# EAGLE library part CPCI-3U (library BaseApp)
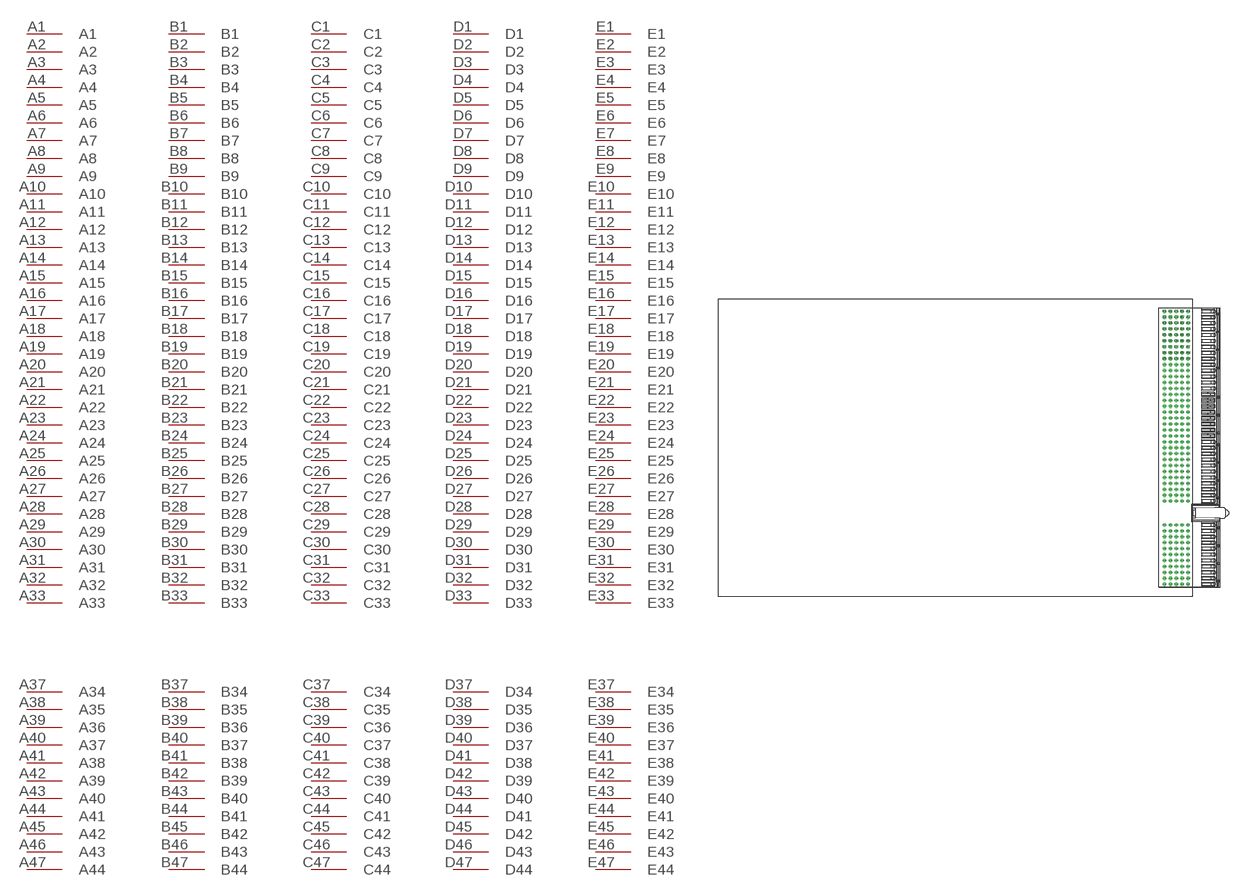
[diagram p22: symbol with the pads of CPCI-3U; footprint CPCI-3U]

Designator prefix X

## CPCI-3U  [CPCI-3U]
A1  A1
A2  A2
A3  A3
A4  A4
A5  A5
A6  A6
A7  A7
A8  A8
A9  A9
A10  A10
A11  A11
A12  A12
A13  A13
A14  A14
A15  A15
A16  A16
A17  A17
A18  A18
A19  A19
A20  A20
A21  A21
A22  A22
A23  A23
A24  A24
A25  A25
A26  A26
A27  A27
A28  A28
A29  A29
A30  A30
A31  A31
A32  A32
A33  A33
A37  A34
A38  A35
A39  A36
A40  A37
A41  A38
A42  A39
A43  A40
A44  A41
A45  A42
A46  A43
A47  A44
B1  B1
B2  B2
B3  B3
B4  B4
B5  B5
B6  B6
B7  B7
B8  B8
B9  B9
B10  B10
B11  B11
B12  B12
B13  B13
B14  B14
B15  B15
B16  B16
B17  B17
B18  B18
B19  B19
B20  B20
B21  B21
B22  B22
B23  B23
B24  B24
B25  B25
B26  B26
B27  B27
B28  B28
B29  B29
B30  B30
B31  B31
B32  B32
B33  B33
B37  B34
B38  B35
B39  B36
B40  B37
B41  B38
B42  B39
B43  B40
B44  B41
B45  B42
B46  B43
B47  B44
C1  C1
C2  C2
C3  C3
C4  C4
C5  C5
C6  C6
C7  C7
C8  C8
C9  C9
C10  C10
C11  C11
C12  C12
C13  C13
C14  C14
C15  C15
C16  C16
C17  C17
C18  C18
C19  C19
C20  C20
C21  C21
C22  C22
C23  C23
C24  C24
C25  C25
C26  C26
C27  C27
C28  C28
C29  C29
C30  C30
C31  C31
C32  C32
C33  C33
C37  C34
C38  C35
C39  C36
C40  C37
C41  C38
C42  C39
C43  C40
C44  C41
C45  C42
C46  C43
C47  C44
D1  D1
D2  D2
D3  D3
D4  D4
D5  D5
D6  D6
D7  D7
D8  D8
D9  D9
D10  D10
D11  D11
D12  D12
D13  D13
D14  D14
D15  D15
D16  D16
D17  D17
D18  D18
D19  D19
D20  D20
D21  D21
D22  D22
D23  D23
D24  D24
D25  D25
D26  D26
D27  D27
D28  D28
D29  D29
D30  D30
D31  D31
D32  D32
D33  D33
D37  D34
D38  D35
D39  D36
D40  D37
D41  D38
D42  D39
D43  D40
D44  D41
D45  D42
D46  D43
D47  D44
E1  E1
E2  E2
E3  E3
E4  E4
E5  E5
E6  E6
E7  E7
E8  E8
E9  E9
E10  E10
E11  E11
E12  E12
E13  E13
E14  E14
E15  E15
E16  E16
E17  E17
E18  E18
E19  E19
E20  E20
E21  E21
E22  E22
E23  E23
E24  E24
E25  E25
E26  E26
E27  E27
E28  E28
E29  E29
E30  E30
E31  E31
E32  E32
E33  E33
E37  E34
E38  E35
E39  E36
E40  E37
E41  E38
E42  E39
E43  E40
E44  E41
E45  E42
E46  E43
E47  E44

## Footprint CPCI-3U (pad centres in mm)
drill 0.7 pad 1.016 octagon: A1 158.5,96; A2 158.5,94; A3 158.5,92; A4 158.5,90; A5 158.5,88; A6 158.5,86; A7 158.5,84; A8 158.5,82; A9 158.5,80; A10 158.5,78; A11 158.5,76; A12 158.5,74; A13 158.5,72; A14 158.5,70; A15 158.5,68; A16 158.5,66; A17 158.5,64; A18 158.5,62; A19 158.5,60; A20 158.5,58; A21 158.5,56; A22 158.5,54; A23 158.5,52; A24 158.5,50; A25 158.5,48; A26 158.5,46; A27 158.5,44; A28 158.5,42; A29 158.5,40; A30 158.5,38; A31 158.5,36; A32 158.5,34; A33 158.5,32; A37 158.5,24; A38 158.5,22; A39 158.5,20; A40 158.5,18; A41 158.5,16; A42 158.5,14; A43 158.5,12; A44 158.5,10; A45 158.5,8; A46 158.5,6; A47 158.5,4; B1 156.5,96; B2 156.5,94; B3 156.5,92; B4 156.5,90; B5 156.5,88; B6 156.5,86; B7 156.5,84; B8 156.5,82; B9 156.5,80; B10 156.5,78; B11 156.5,76; B12 156.5,74; B13 156.5,72; B14 156.5,70; B15 156.5,68; B16 156.5,66; B17 156.5,64; B18 156.5,62; B19 156.5,60; B20 156.5,58; B21 156.5,56; B22 156.5,54; B23 156.5,52; B24 156.5,50; B25 156.5,48; B26 156.5,46; B27 156.5,44; B28 156.5,42; B29 156.5,40; B30 156.5,38; B31 156.5,36; B32 156.5,34; B33 156.5,32; B37 156.5,24; B38 156.5,22; B39 156.5,20; B40 156.5,18; B41 156.5,16; B42 156.5,14; B43 156.5,12; B44 156.5,10; B45 156.5,8; B46 156.5,6; B47 156.5,4; C1 154.5,96; C2 154.5,94; C3 154.5,92; C4 154.5,90; C5 154.5,88; C6 154.5,86; C7 154.5,84; C8 154.5,82; C9 154.5,80; C10 154.5,78; C11 154.5,76; C12 154.5,74; C13 154.5,72; C14 154.5,70; C15 154.5,68; C16 154.5,66; C17 154.5,64; C18 154.5,62; C19 154.5,60; C20 154.5,58; C21 154.5,56; C22 154.5,54; C23 154.5,52; C24 154.5,50; C25 154.5,48; C26 154.5,46; C27 154.5,44; C28 154.5,42; C29 154.5,40; C30 154.5,38; C31 154.5,36; C32 154.5,34; C33 154.5,32; C37 154.5,24; C38 154.5,22; C39 154.5,20; C40 154.5,18; C41 154.5,16; C42 154.5,14; C43 154.5,12; C44 154.5,10; C45 154.5,8; C46 154.5,6; C47 154.5,4; D1 152.5,96; D2 152.5,94; D3 152.5,92; D4 152.5,90; D5 152.5,88; D6 152.5,86; D7 152.5,84; D8 152.5,82; D9 152.5,80; D10 152.5,78; D11 152.5,76; D12 152.5,74; D13 152.5,72; D14 152.5,70; D15 152.5,68; D16 152.5,66; D17 152.5,64; D18 152.5,62; D19 152.5,60; D20 152.5,58; D21 152.5,56; D22 152.5,54; D23 152.5,52; D24 152.5,50; D25 152.5,48; D26 152.5,46; D27 152.5,44; D28 152.5,42; D29 152.5,40; D30 152.5,38; D31 152.5,36; D32 152.5,34; D33 152.5,32; D37 152.5,24; D38 152.5,22; D39 152.5,20; D40 152.5,18; D41 152.5,16; D42 152.5,14; D43 152.5,12; D44 152.5,10; D45 152.5,8; D46 152.5,6; D47 152.5,4; E1 150.5,96; E2 150.5,94; E3 150.5,92; E4 150.5,90; E5 150.5,88; E6 150.5,86; E7 150.5,84; E8 150.5,82; E9 150.5,80; E10 150.5,78; E11 150.5,76; E12 150.5,74; E13 150.5,72; E14 150.5,70; E15 150.5,68; E16 150.5,66; E17 150.5,64; E18 150.5,62; E19 150.5,60; E20 150.5,58; E21 150.5,56; E22 150.5,54; E23 150.5,52; E24 150.5,50; E25 150.5,48; E26 150.5,46; E27 150.5,44; E28 150.5,42; E29 150.5,40; E30 150.5,38; E31 150.5,36; E32 150.5,34; E33 150.5,32; E37 150.5,24; E38 150.5,22; E39 150.5,20; E40 150.5,18; E41 150.5,16; E42 150.5,14; E43 150.5,12; E44 150.5,10; E45 150.5,8; E46 150.5,6; E47 150.5,4